# Altium footprint library TMP_SNSR(1.8-5.5V, 16b, 6-WSON, I2C).PcbLib: 1 footprints
Each footprint in its own frame and in the unit in brackets; x right, y up, seen from the top. Pads: shape width x height; smd on the part's side, far side on the other; paste and mask are expansions set on the pad; w line width, h text height; cw(c..) or ccw(c..) is an arc to the next point about the centre after c.
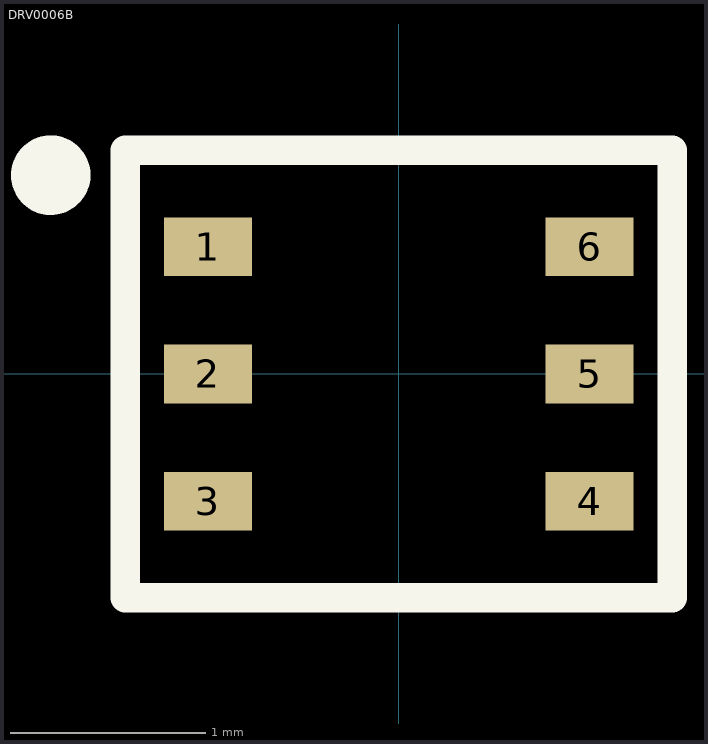
[diagram p0: the footprint, top view; thin cyan lines are the x and y axes]

## DRV0006B [mm]
pads (6):
  rect 0.45x0.3 smd paste+0 mask+0.051: 1(-0.975,0.65) 2(-0.975,0) 3(-0.975,-0.65) 4(0.975,-0.65) 5(0.975,0) 6(0.975,0.65)
Top Overlay:
  circle w0.254: c-1.778,1.016 r0.076
  lines w0.152: -1.397,-1.143 1.397,-1.143 1.397,1.143 -1.397,1.143 -1.397,-1.143
3D body "TMP117MAIDRVR.step": height 0.8, standoff 0, extent -1,-1 1,1